# EAGLE library part LT1737 (library wheat)
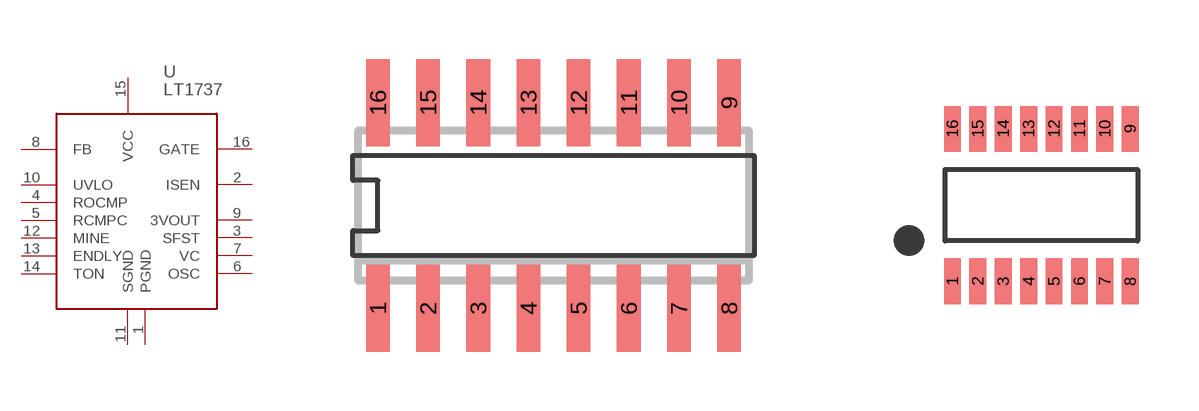
[diagram p211: symbol with the pads of SO16; footprints SO16, SSOP16]

Designator prefix U

## LT1737CS  [SO16]
1  PGND
2  ISEN
3  SFST
4  ROCMP
5  RCMPC
6  OSC
7  VC
8  FB
9  3VOUT
10  UVLO
11  SGND
12  MINE
13  ENDLY
14  TON
15  VCC
16  GATE

## LT1737CGN  [SSOP16]
Pads as for SO16

## Footprint SO16 (pad centres in mm)
SO16, NARROW
smd 0.6 x 2.2: 1 -3.81,-2.6; 2 -2.54,-2.6; 3 -1.27,-2.6; 4 0,-2.6; 5 1.27,-2.6; 6 2.54,-2.6; 7 3.81,-2.6; 8 5.08,-2.6; 9 5.08,2.6; 10 3.81,2.6; 11 2.54,2.6; 12 1.27,2.6; 13 0,2.6; 14 -1.27,2.6; 15 -2.54,2.6; 16 -3.81,2.6

## Footprint SSOP16 (pad centres in mm)
smd 0.419 x 1.143: 1 -2.223,-1.905; 2 -1.587,-1.905; 3 -0.953,-1.905; 4 -0.318,-1.905; 5 0.318,-1.905; 6 0.953,-1.905; 7 1.587,-1.905; 8 2.223,-1.905; 9 2.223,1.905; 10 1.587,1.905; 11 0.953,1.905; 12 0.318,1.905; 13 -0.318,1.905; 14 -0.953,1.905; 15 -1.587,1.905; 16 -2.223,1.905